# Altium footprint library PCB Library.PcbLib: 2 footprints
Each footprint in its own frame and in the unit in brackets; x right, y up, seen from the top. Pads: shape width x height; smd on the part's side, far side on the other; paste and mask are expansions set on the pad; w line width, h text height; cw(c..) or ccw(c..) is an arc to the next point about the centre after c.
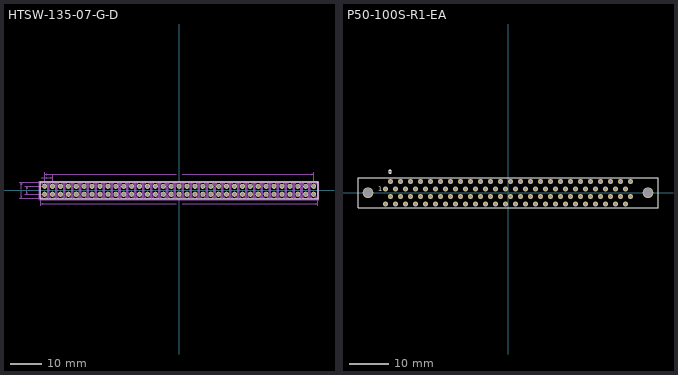
[diagram p0: the footprints below, top view; thin cyan lines are the x and y axes]

## HTSW-135-07-G-D [mm]
pads (70):
  round 1.62 hole 1.02: 1(-43.18,-1.27) 2(-43.18,1.27) 3(-40.64,-1.27) 4(-40.64,1.27) 5(-38.1,-1.27) 6(-38.1,1.27) 7(-35.56,-1.27) 8(-35.56,1.27) 9(-33.02,-1.27) 10(-33.02,1.27) 11(-30.48,-1.27) 12(-30.48,1.27) 13(-27.94,-1.27) 14(-27.94,1.27) 15(-25.4,-1.27) 16(-25.4,1.27) 17(-22.86,-1.27) 18(-22.86,1.27) 19(-20.32,-1.27) 20(-20.32,1.27) 21(-17.78,-1.27) 22(-17.78,1.27) 23(-15.24,-1.27) 24(-15.24,1.27) 25(-12.7,-1.27) 26(-12.7,1.27) 27(-10.16,-1.27) 28(-10.16,1.27) 29(-7.62,-1.27) 30(-7.62,1.27) 31(-5.08,-1.27) 32(-5.08,1.27) 33(-2.54,-1.27) 34(-2.54,1.27) 35(0,-1.27) 36(0,1.27) 37(2.54,-1.27) 38(2.54,1.27) 39(5.08,-1.27) 40(5.08,1.27) 41(7.62,-1.27) 42(7.62,1.27) 43(10.16,-1.27) 44(10.16,1.27) 45(12.7,-1.27) 46(12.7,1.27) 47(15.24,-1.27) 48(15.24,1.27) 49(17.78,-1.27) 50(17.78,1.27) 51(20.32,-1.27) 52(20.32,1.27) 53(22.86,-1.27) 54(22.86,1.27) 55(25.4,-1.27) 56(25.4,1.27) 57(27.94,-1.27) 58(27.94,1.27) 59(30.48,-1.27) 60(30.48,1.27) 61(33.02,-1.27) 62(33.02,1.27) 63(35.56,-1.27) 64(35.56,1.27) 65(38.1,-1.27) 66(38.1,1.27) 67(40.64,-1.27) 68(40.64,1.27) 69(43.18,-1.27) 70(43.18,1.27)
Top Overlay:
  lines w0.2: -44.577,-2.794 44.704,-2.794 44.704,2.794 -44.577,2.794 -44.577,-2.794
Top Solder:
  circle w0: c43.18,1.27 r0.861
  circle w0: c43.18,-1.27 r0.861
  circle w0: c40.64,1.27 r0.861
  circle w0: c40.64,-1.27 r0.861
  circle w0: c38.1,1.27 r0.861
  circle w0: c38.1,-1.27 r0.861
  circle w0: c35.56,1.27 r0.861
  circle w0: c35.56,-1.27 r0.861
  circle w0: c33.02,1.27 r0.861
  circle w0: c33.02,-1.27 r0.861
  circle w0: c30.48,1.27 r0.861
  circle w0: c30.48,-1.27 r0.861
  circle w0: c27.94,1.27 r0.861
  circle w0: c27.94,-1.27 r0.861
  circle w0: c25.4,1.27 r0.861
  circle w0: c25.4,-1.27 r0.861
  circle w0: c22.86,1.27 r0.861
  circle w0: c22.86,-1.27 r0.861
  circle w0: c20.32,1.27 r0.861
  circle w0: c20.32,-1.27 r0.861
  circle w0: c17.78,1.27 r0.861
  circle w0: c17.78,-1.27 r0.861
  circle w0: c15.24,1.27 r0.861
  circle w0: c15.24,-1.27 r0.861
  circle w0: c12.7,1.27 r0.861
  circle w0: c12.7,-1.27 r0.861
  circle w0: c10.16,1.27 r0.861
  circle w0: c10.16,-1.27 r0.861
  circle w0: c7.62,1.27 r0.861
  circle w0: c7.62,-1.27 r0.861
  circle w0: c5.08,1.27 r0.861
  circle w0: c5.08,-1.27 r0.861
  circle w0: c2.54,1.27 r0.861
  circle w0: c2.54,-1.27 r0.861
  circle w0: c0,1.27 r0.861
  circle w0: c0,-1.27 r0.861
  circle w0: c-2.54,1.27 r0.861
  circle w0: c-2.54,-1.27 r0.861
  circle w0: c-5.08,1.27 r0.861
  circle w0: c-5.08,-1.27 r0.861
  circle w0: c-7.62,1.27 r0.861
  circle w0: c-7.62,-1.27 r0.861
  circle w0: c-10.16,1.27 r0.861
  circle w0: c-10.16,-1.27 r0.861
  circle w0: c-12.7,1.27 r0.861
  circle w0: c-12.7,-1.27 r0.861
  circle w0: c-15.24,1.27 r0.861
  circle w0: c-15.24,-1.27 r0.861
  circle w0: c-17.78,1.27 r0.861
  circle w0: c-17.78,-1.27 r0.861
  circle w0: c-20.32,1.27 r0.861
  circle w0: c-20.32,-1.27 r0.861
  circle w0: c-22.86,1.27 r0.861
  circle w0: c-22.86,-1.27 r0.861
  circle w0: c-25.4,1.27 r0.861
  circle w0: c-25.4,-1.27 r0.861
  circle w0: c-27.94,1.27 r0.861
  circle w0: c-27.94,-1.27 r0.861
  circle w0: c-30.48,1.27 r0.861
  circle w0: c-30.48,-1.27 r0.861
  circle w0: c-33.02,1.27 r0.861
  circle w0: c-33.02,-1.27 r0.861
  circle w0: c-35.56,1.27 r0.861
  circle w0: c-35.56,-1.27 r0.861
  circle w0: c-38.1,1.27 r0.861
  circle w0: c-38.1,-1.27 r0.861
  circle w0: c-40.64,1.27 r0.861
  circle w0: c-40.64,-1.27 r0.861
  circle w0: c-43.18,1.27 r0.861
  circle w0: c-43.18,-1.27 r0.861
Bottom Solder:
  circle w0: c43.18,1.27 r0.861
  circle w0: c43.18,-1.27 r0.861
  circle w0: c40.64,1.27 r0.861
  circle w0: c40.64,-1.27 r0.861
  circle w0: c38.1,1.27 r0.861
  circle w0: c38.1,-1.27 r0.861
  circle w0: c35.56,1.27 r0.861
  circle w0: c35.56,-1.27 r0.861
  circle w0: c33.02,1.27 r0.861
  circle w0: c33.02,-1.27 r0.861
  circle w0: c30.48,1.27 r0.861
  circle w0: c30.48,-1.27 r0.861
  circle w0: c27.94,1.27 r0.861
  circle w0: c27.94,-1.27 r0.861
  circle w0: c25.4,1.27 r0.861
  circle w0: c25.4,-1.27 r0.861
  circle w0: c22.86,1.27 r0.861
  circle w0: c22.86,-1.27 r0.861
  circle w0: c20.32,1.27 r0.861
  circle w0: c20.32,-1.27 r0.861
  circle w0: c17.78,1.27 r0.861
  circle w0: c17.78,-1.27 r0.861
  circle w0: c15.24,1.27 r0.861
  circle w0: c15.24,-1.27 r0.861
  circle w0: c12.7,1.27 r0.861
  circle w0: c12.7,-1.27 r0.861
  circle w0: c10.16,1.27 r0.861
  circle w0: c10.16,-1.27 r0.861
  circle w0: c7.62,1.27 r0.861
  circle w0: c7.62,-1.27 r0.861
  circle w0: c5.08,1.27 r0.861
  circle w0: c5.08,-1.27 r0.861
  circle w0: c2.54,1.27 r0.861
  circle w0: c2.54,-1.27 r0.861
  circle w0: c0,1.27 r0.861
  circle w0: c0,-1.27 r0.861
  circle w0: c-2.54,1.27 r0.861
  circle w0: c-2.54,-1.27 r0.861
  circle w0: c-5.08,1.27 r0.861
  circle w0: c-5.08,-1.27 r0.861
  circle w0: c-7.62,1.27 r0.861
  circle w0: c-7.62,-1.27 r0.861
  circle w0: c-10.16,1.27 r0.861
  circle w0: c-10.16,-1.27 r0.861
  circle w0: c-12.7,1.27 r0.861
  circle w0: c-12.7,-1.27 r0.861
  circle w0: c-15.24,1.27 r0.861
  circle w0: c-15.24,-1.27 r0.861
  circle w0: c-17.78,1.27 r0.861
  circle w0: c-17.78,-1.27 r0.861
  circle w0: c-20.32,1.27 r0.861
  circle w0: c-20.32,-1.27 r0.861
  circle w0: c-22.86,1.27 r0.861
  circle w0: c-22.86,-1.27 r0.861
  circle w0: c-25.4,1.27 r0.861
  circle w0: c-25.4,-1.27 r0.861
  circle w0: c-27.94,1.27 r0.861
  circle w0: c-27.94,-1.27 r0.861
  circle w0: c-30.48,1.27 r0.861
  circle w0: c-30.48,-1.27 r0.861
  circle w0: c-33.02,1.27 r0.861
  circle w0: c-33.02,-1.27 r0.861
  circle w0: c-35.56,1.27 r0.861
  circle w0: c-35.56,-1.27 r0.861
  circle w0: c-38.1,1.27 r0.861
  circle w0: c-38.1,-1.27 r0.861
  circle w0: c-40.64,1.27 r0.861
  circle w0: c-40.64,-1.27 r0.861
  circle w0: c-43.18,1.27 r0.861
  circle w0: c-43.18,-1.27 r0.861
Mechanical 16:
  drawing of 1992 lines, arcs and shapes, not listed
Mechanical 40:
  lines w0: -51.399,-2.515 -45.151,-2.515 ; -51.399,2.515 -45.151,2.515 ; -50.698,-0.318 -50.698,-2.515 ; -50.698,0.318 -50.698,2.515 ; -49.533,-1.27 -43.881,-1.27 ; -49.533,1.27 -43.881,1.27 ; -48.832,-0.318 -48.832,-1.27 ; -48.832,0.318 -48.832,1.27 ; -44.45,-4.95 -44.45,-3.216 ; -44.298,4.064 -43.18,4.064 ; -43.18,4.765 -43.18,1.971 -43.18,5.781 ; -40.64,1.971 -40.64,4.765 ; -0.991,-4.249 -44.45,-4.249 ; -0.991,5.08 -43.18,5.08 ; 0.991,-4.249 44.45,-4.249 ; 0.991,5.08 43.18,5.08 ; 43.18,1.971 43.18,5.781 ; 44.45,-4.95 44.45,-3.216 ; -50.857,-1.88 -50.778,-1.943 -50.698,-2.515 ; -50.857,-1.88 -50.698,-2.007 ; -50.857,-1.88 -50.698,-2.515 ; -50.698,-2.515 -50.698,-2.007 ; -50.698,-2.515 -50.619,-1.943 -50.698,-2.007 ; -50.698,-2.515 -50.54,-1.88 -50.698,-2.007 ; -50.698,2.007 -50.698,2.515 ; -50.698,2.007 -50.778,1.943 -50.698,2.515 ; -50.698,2.007 -50.54,1.88 ; -50.698,2.007 -50.857,1.88 -50.698,2.515 ; -50.698,2.515 -50.619,1.943 -50.54,1.88 ; -50.698,2.515 -50.54,1.88 ; -48.99,-0.635 -48.911,-0.698 -48.832,-1.27 ; -48.99,-0.635 -48.832,-0.762 ; -48.99,-0.635 -48.832,-1.27 ; -48.832,-1.27 -48.832,-0.762 ; -48.832,-1.27 -48.752,-0.698 -48.832,-0.762 ; -48.832,-1.27 -48.673,-0.635 -48.832,-0.762 ; -48.832,0.762 -48.832,1.27 ; -48.832,0.762 -48.911,0.698 -48.832,1.27 ; -48.832,0.762 -48.673,0.635 ; -48.832,0.762 -48.99,0.635 -48.832,1.27 ; -48.832,1.27 -48.752,0.698 -48.673,0.635 ; -48.832,1.27 -48.673,0.635 ; -44.45,-4.249 -43.878,-4.17 -43.815,-4.091 ; -44.45,-4.249 -43.942,-4.249 ; -44.45,-4.249 -43.878,-4.329 -43.942,-4.249 ; -44.45,-4.249 -43.815,-4.408 -43.942,-4.249 ; -44.45,-4.249 -43.815,-4.091 ; -43.942,-4.249 -43.815,-4.091 ; -43.18,4.064 -40.64,4.064 ; -43.18,4.064 -42.608,4.143 -42.545,4.223 ; -43.18,4.064 -42.672,4.064 ; -43.18,4.064 -42.608,3.985 -42.672,4.064 ; -43.18,4.064 -42.545,3.905 -42.672,4.064 ; -43.18,4.064 -42.545,4.223 ; -43.18,5.08 -42.608,5.159 -42.545,5.239 ; -43.18,5.08 -42.672,5.08 ; -43.18,5.08 -42.608,5.001 -42.672,5.08 ; -43.18,5.08 -42.545,4.921 -42.672,5.08 ; -43.18,5.08 -42.545,5.239 ; -42.672,4.064 -42.545,4.223 ; -42.672,5.08 -42.545,5.239 ; -41.275,3.905 -41.212,3.985 -40.64,4.064 ; -41.275,3.905 -41.148,4.064 ; -41.275,3.905 -40.64,4.064 ; -41.148,4.064 -40.64,4.064 ; -41.148,4.064 -41.212,4.143 -40.64,4.064 ; -41.148,4.064 -41.275,4.223 -40.64,4.064 ; 42.545,4.921 42.608,5.001 43.18,5.08 ; 42.545,4.921 42.672,5.08 ; 42.545,4.921 43.18,5.08 ; 42.672,5.08 43.18,5.08 ; 42.672,5.08 42.608,5.159 43.18,5.08 ; 42.672,5.08 42.545,5.239 43.18,5.08 ; 43.815,-4.408 43.878,-4.329 44.45,-4.249 ; 43.815,-4.408 43.942,-4.249 ; 43.815,-4.408 44.45,-4.249 ; 43.942,-4.249 44.45,-4.249 ; 43.942,-4.249 43.878,-4.17 44.45,-4.249 ; 43.942,-4.249 43.815,-4.091 44.45,-4.249
  text "86.360" at -0.8,4.953 h0.39
  text "88.900" at -0.8,-4.376 h0.39
  text "2.540" at -45.809,3.937 h0.39
  text "2.540" at -49.492,-0.127 h0.39
  text "5.029" at -51.359,-0.127 h0.39
Mechanical 42:
  lines w0.1: -44.9,-2.965 44.9,-2.965 44.9,2.965 -44.9,2.965 -44.9,-2.965
3D body "HTSW-135-07-G-D.stp": height 7.89, standoff -3.04, extent -44.577,-2.514 44.323,2.515

## P50-100S-R1-EA [mm]
pads (102):
  round 1.27 hole 0.8: 1(-31.115,0.953) 2(-29.845,2.858) 3(-28.575,0.953) 4(-27.305,2.858) 5(-26.035,0.953) 6(-24.765,2.858) 7(-23.495,0.953) 8(-22.225,2.858) 9(-20.955,0.953) 10(-19.685,2.858) 11(-18.415,0.953) 12(-17.145,2.858) 13(-15.875,0.953) 14(-14.605,2.858) 15(-13.335,0.953) 16(-12.065,2.858) 17(-10.795,0.953) 18(-9.525,2.858) 19(-8.255,0.953) 20(-6.985,2.858) 21(-5.715,0.953) 22(-4.445,2.858) 23(-3.175,0.953) 24(-1.905,2.858) 25(-0.635,0.953) 26(0.635,2.858) 27(1.905,0.953) 28(3.175,2.858) 29(4.445,0.953) 30(5.715,2.858) 31(6.985,0.953) 32(8.255,2.858) 33(9.525,0.953) 34(10.795,2.858) 35(12.065,0.953) 36(13.335,2.858) 37(14.605,0.953) 38(15.875,2.858) 39(17.145,0.953) 40(18.415,2.858) 41(19.685,0.953) 42(20.955,2.858) 43(22.225,0.953) 44(23.495,2.858) 45(24.765,0.953) 46(26.035,2.858) 47(27.305,0.953) 48(28.575,2.858) 49(29.845,0.953) 50(31.115,2.858) 51(-31.115,-2.857) 52(-29.845,-0.952) 53(-28.575,-2.857) 54(-27.305,-0.952) 55(-26.035,-2.857) 56(-24.765,-0.952) 57(-23.495,-2.857) 58(-22.225,-0.952) 59(-20.955,-2.857) 60(-19.685,-0.952) 61(-18.415,-2.857) 62(-17.145,-0.952) 63(-15.875,-2.857) 64(-14.605,-0.952) 65(-13.335,-2.857) 66(-12.065,-0.952) 67(-10.795,-2.857) 68(-9.525,-0.952) 69(-8.255,-2.857) 70(-6.985,-0.952) 71(-5.715,-2.857) 72(-4.445,-0.952) 73(-3.175,-2.857) 74(-1.905,-0.952) 75(-0.635,-2.857) 76(0.635,-0.952) 77(1.905,-2.857) 78(3.175,-0.952) 79(4.445,-2.857) 80(5.715,-0.952) 81(6.985,-2.857) 82(8.255,-0.952) 83(9.525,-2.857) 84(10.795,-0.952) 85(12.065,-2.857) 86(13.335,-0.952) 87(14.605,-2.857) 88(15.875,-0.952) 89(17.145,-2.857) 90(18.415,-0.952) 91(19.685,-2.857) 92(20.955,-0.952) 93(22.225,-2.857) 94(23.495,-0.952) 95(24.765,-2.857) 96(26.035,-0.952) 97(27.305,-2.857) 98(28.575,-0.952) 99(29.845,-2.857) 100(31.115,-0.952)
  round 2.7 hole 2.3: ""(-35.56,0) ""(35.56,0)
Top Overlay:
  circle w0.254: c-29.972,5.334 r0.359
  lines w0.3: -38.096,-1.85 -38.1,-3.81 -21.24,-3.81 16.86,-3.81 38.1,-3.81 38.1,3.81 -38.085,3.81 -38.089,1.85 -38.096,-1.85 ; -38.096,-1.85 -38.096,-1.85
  text "1" at -32.947,0.327 h1.2
3D body "P50-100P-R1-XX_step.stp": height 10.71, standoff -2.99, extent -37.93,-3.5 38.3,3.5